# Altium schematic symbol library WE-LF SMD.SchLib: 9 symbols
Pins are listed as number, name and electrical type; pins without a type are passive.

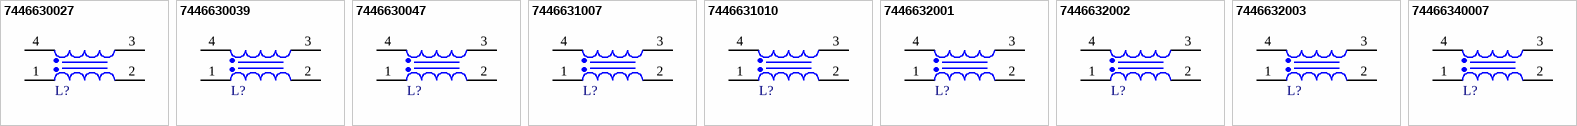
[diagram p0: symbols 7446630027 to 74466340007]

## 7446630027
designator L?, comment 27mH  (value not drawn)
WE-LF SMD Common Mode Power Line Choke, Type SH, 27mH, 0.6A, 1.2Ω; Manufacturer Part Number: 7446630027; Manufacturer: Wurth Elektronik; Case/Size Code: Type SH; Insulation Test Voltage (AC): 1500V; Material: MnZn; Rated Voltage (AC): 250V; ComponentLink1Description: Manufacturer Link; ComponentLink1URL: https://www.we-online.com/redexpert/article/7446630027?ad; ComponentLink2Description: Datasheet; ComponentLink2URL: https://www.we-online.com/redexpert/spec/7446630027?ad; Category: Common Mode Chokes; Match Code: WE-LF SMD; Mount: Surface Mount; Operating Temperature Max: 125°C; Operating Temperature Min: -40°C; Packaging: Tape and Reel; Length: 23.3mm; Width: 18.5mm; Height: 11.5mm; DC Resistance Max: 1.2Ω; Inductance: 27mH; Rated Current: 0.6A
footprint WE-LF SMD_Type SH
pins: 1, 2, 3, 4

## 7446630039
designator L?, comment 39mH  (value not drawn)
WE-LF SMD Common Mode Power Line Choke, Type SH, 39mH, 0.55A, 1.7Ω; Manufacturer Part Number: 7446630039; Manufacturer: Wurth Elektronik; Case/Size Code: Type SH; Insulation Test Voltage (AC): 1500V; Material: MnZn; Rated Voltage (AC): 250V; ComponentLink1Description: Manufacturer Link; ComponentLink1URL: https://www.we-online.com/redexpert/article/7446630039?ad; ComponentLink2Description: Datasheet; ComponentLink2URL: https://www.we-online.com/redexpert/spec/7446630039?ad; Category: Common Mode Chokes; Match Code: WE-LF SMD; Mount: Surface Mount; Operating Temperature Max: 125°C; Operating Temperature Min: -40°C; Packaging: Tape and Reel; Length: 23.3mm; Width: 18.5mm; Height: 11.5mm; DC Resistance Max: 1.7Ω; Inductance: 39mH; Rated Current: 0.55A
footprint WE-LF SMD_Type SH
pins: 1, 2, 3, 4

## 7446630047
designator L?, comment 47mH  (value not drawn)
WE-LF SMD Common Mode Power Line Choke, Type SH, 47mH, 0.4A, 2.6Ω; Manufacturer Part Number: 7446630047; Manufacturer: Wurth Elektronik; Case/Size Code: Type SH; Insulation Test Voltage (AC): 1500V; Material: MnZn; Rated Voltage (AC): 250V; ComponentLink1Description: Manufacturer Link; ComponentLink1URL: https://www.we-online.com/redexpert/article/7446630047?ad; ComponentLink2Description: Datasheet; ComponentLink2URL: https://www.we-online.com/redexpert/spec/7446630047?ad; Category: Common Mode Chokes; Match Code: WE-LF SMD; Mount: Surface Mount; Operating Temperature Max: 125°C; Operating Temperature Min: -40°C; Packaging: Tape and Reel; Length: 23.3mm; Width: 18.5mm; Height: 11.5mm; DC Resistance Max: 2.6Ω; Inductance: 47mH; Rated Current: 0.4A
footprint WE-LF SMD_Type SH
pins: 1, 2, 3, 4

## 7446631007
designator L?, comment 6.8mH  (value not drawn)
WE-LF SMD Common Mode Power Line Choke, Type SH, 6.8mH, 1.4A, 0.3Ω; Manufacturer Part Number: 7446631007; Manufacturer: Wurth Elektronik; Case/Size Code: Type SH; Insulation Test Voltage (AC): 1500V; Material: MnZn; Rated Voltage (AC): 250V; ComponentLink1Description: Manufacturer Link; ComponentLink1URL: https://www.we-online.com/redexpert/article/7446631007?ad; ComponentLink2Description: Datasheet; ComponentLink2URL: https://www.we-online.com/redexpert/spec/7446631007?ad; Category: Common Mode Chokes; Match Code: WE-LF SMD; Mount: Surface Mount; Operating Temperature Max: 125°C; Operating Temperature Min: -40°C; Packaging: Tape and Reel; Length: 23.3mm; Width: 18.5mm; Height: 11.5mm; DC Resistance Max: 0.3Ω; Inductance: 6.8mH; Rated Current: 1.4A
footprint WE-LF SMD_Type SH
pins: 1, 2, 3, 4

## 7446631010
designator L?, comment 10mH  (value not drawn)
WE-LF SMD Common Mode Power Line Choke, Type SH, 10mH, 1A, 0.55Ω; Manufacturer Part Number: 7446631010; Manufacturer: Wurth Elektronik; Case/Size Code: Type SH; Insulation Test Voltage (AC): 1500V; Material: MnZn; Rated Voltage (AC): 250V; ComponentLink1Description: Manufacturer Link; ComponentLink1URL: https://www.we-online.com/redexpert/article/7446631010?ad; ComponentLink2Description: Datasheet; ComponentLink2URL: https://www.we-online.com/redexpert/spec/7446631010?ad; Category: Common Mode Chokes; Match Code: WE-LF SMD; Mount: Surface Mount; Operating Temperature Max: 125°C; Operating Temperature Min: -40°C; Packaging: Tape and Reel; Length: 23.3mm; Width: 18.5mm; Height: 11.5mm; DC Resistance Max: 0.55Ω; Inductance: 10mH; Rated Current: 1A
footprint WE-LF SMD_Type SH
pins: 1, 2, 3, 4

## 7446632001
designator L?, comment 1mH  (value not drawn)
WE-LF SMD Common Mode Power Line Choke, Type SH, 1mH, 3A, 0.06Ω; Manufacturer Part Number: 7446632001; Manufacturer: Wurth Elektronik; Case/Size Code: Type SH; Insulation Test Voltage (AC): 1500V; Material: MnZn; Rated Voltage (AC): 250V; ComponentLink1Description: Manufacturer Link; ComponentLink1URL: https://www.we-online.com/redexpert/article/7446632001?ad; ComponentLink2Description: Datasheet; ComponentLink2URL: https://www.we-online.com/redexpert/spec/7446632001?ad; Category: Common Mode Chokes; Match Code: WE-LF SMD; Mount: Surface Mount; Operating Temperature Max: 125°C; Operating Temperature Min: -40°C; Packaging: Tape and Reel; Length: 23.3mm; Width: 18.5mm; Height: 11.5mm; DC Resistance Max: 0.06Ω; Inductance: 1mH; Rated Current: 3A
footprint WE-LF SMD_Type SH
pins: 1, 2, 3, 4

## 7446632002
designator L?, comment 2.2mH  (value not drawn)
WE-LF SMD Common Mode Power Line Choke, Type SH, 2.2mH, 2.75A, 0.1Ω; Manufacturer Part Number: 7446632002; Manufacturer: Wurth Elektronik; Case/Size Code: Type SH; Insulation Test Voltage (AC): 1500V; Material: MnZn; Rated Voltage (AC): 250V; ComponentLink1Description: Manufacturer Link; ComponentLink1URL: https://www.we-online.com/redexpert/article/7446632002?ad; ComponentLink2Description: Datasheet; ComponentLink2URL: https://www.we-online.com/redexpert/spec/7446632002?ad; Category: Common Mode Chokes; Match Code: WE-LF SMD; Mount: Surface Mount; Operating Temperature Max: 125°C; Operating Temperature Min: -40°C; Packaging: Tape and Reel; Length: 23.3mm; Width: 18.5mm; Height: 11.5mm; DC Resistance Max: 0.1Ω; Inductance: 2.2mH; Rated Current: 2.75A
footprint WE-LF SMD_Type SH
pins: 1, 2, 3, 4

## 7446632003
designator L?, comment 3.3mH  (value not drawn)
WE-LF SMD Common Mode Power Line Choke, Type SH, 3.3mH, 2.25A, 0.15Ω; Manufacturer Part Number: 7446632003; Manufacturer: Wurth Elektronik; Case/Size Code: Type SH; Insulation Test Voltage (AC): 1500V; Material: MnZn; Rated Voltage (AC): 250V; ComponentLink1Description: Manufacturer Link; ComponentLink1URL: https://www.we-online.com/redexpert/article/7446632003?ad; ComponentLink2Description: Datasheet; ComponentLink2URL: https://www.we-online.com/redexpert/spec/7446632003?ad; Category: Common Mode Chokes; Match Code: WE-LF SMD; Mount: Surface Mount; Operating Temperature Max: 125°C; Operating Temperature Min: -40°C; Packaging: Tape and Reel; Length: 23.3mm; Width: 18.5mm; Height: 11.5mm; DC Resistance Max: 0.15Ω; Inductance: 3.3mH; Rated Current: 2.25A
footprint WE-LF SMD_Type SH
pins: 1, 2, 3, 4

## 74466340007
designator L?, comment 0.7mH  (value not drawn)
WE-LF SMD Common Mode Power Line Choke, Type SH, 0.7mH, 5.25A, 0.03Ω; Manufacturer Part Number: 74466340007; Manufacturer: Wurth Elektronik; Case/Size Code: Type SH; Insulation Test Voltage (AC): 1500V; Material: MnZn; Rated Voltage (AC): 250V; ComponentLink1Description: Manufacturer Link; ComponentLink1URL: https://www.we-online.com/redexpert/article/74466340007?ad; ComponentLink2Description: Datasheet; ComponentLink2URL: https://www.we-online.com/redexpert/spec/74466340007?ad; Category: Common Mode Chokes; Match Code: WE-LF SMD; Mount: Surface Mount; Operating Temperature Max: 125°C; Operating Temperature Min: -40°C; Packaging: Tape and Reel; Length: 23.3mm; Width: 18.5mm; Height: 11.5mm; DC Resistance Max: 0.03Ω; Inductance: 0.7mH; Rated Current: 5.25A
footprint WE-LF SMD_Type SH
pins: 1, 2, 3, 4